# EAGLE library part CCDCAMERA (library SCIENCE_BOARD)
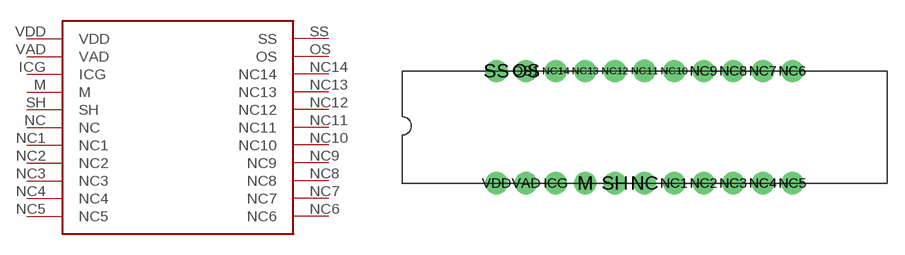
[diagram p0: symbol with the pads of CCDCAMERA; footprint CCDCAMERA]

Designator prefix -

## CCDCAMERA  [CCDCAMERA]
ICG  ICG
M  M
NC  NC
NC1  NC1
NC2  NC2
NC3  NC3
NC4  NC4
NC5  NC5
NC6  NC6
NC7  NC7
NC8  NC8
NC9  NC9
NC10  NC10
NC11  NC11
NC12  NC12
NC13  NC13
NC14  NC14
OS  OS
SH  SH
SS  SS
VAD  VAD
VDD  VDD

## Footprint CCDCAMERA (pad centres in mm)
drill 1.016 pad 1.905: ICG -7.62,-4.825; M -5.08,-4.825; NC 0,-4.825; NC1 2.54,-4.825; NC2 5.08,-4.825; NC3 7.62,-4.825; NC4 10.16,-4.825; NC5 12.7,-4.825; NC6 12.7,4.82; NC7 10.16,4.82; NC8 7.62,4.82; NC9 5.08,4.82; NC10 2.54,4.82; NC11 0,4.825; NC12 -2.54,4.82; NC13 -5.08,4.82; NC14 -7.62,4.82; OS -10.16,4.82; OS1 -10.16,4.82; SH -2.54,-4.825; SS -12.7,4.82; VAD -10.16,-4.825; VDD -12.7,-4.825